# Altium integrated library Infineon RF & Wireless Control.IntLib: 329 symbols (part 11 of 11)
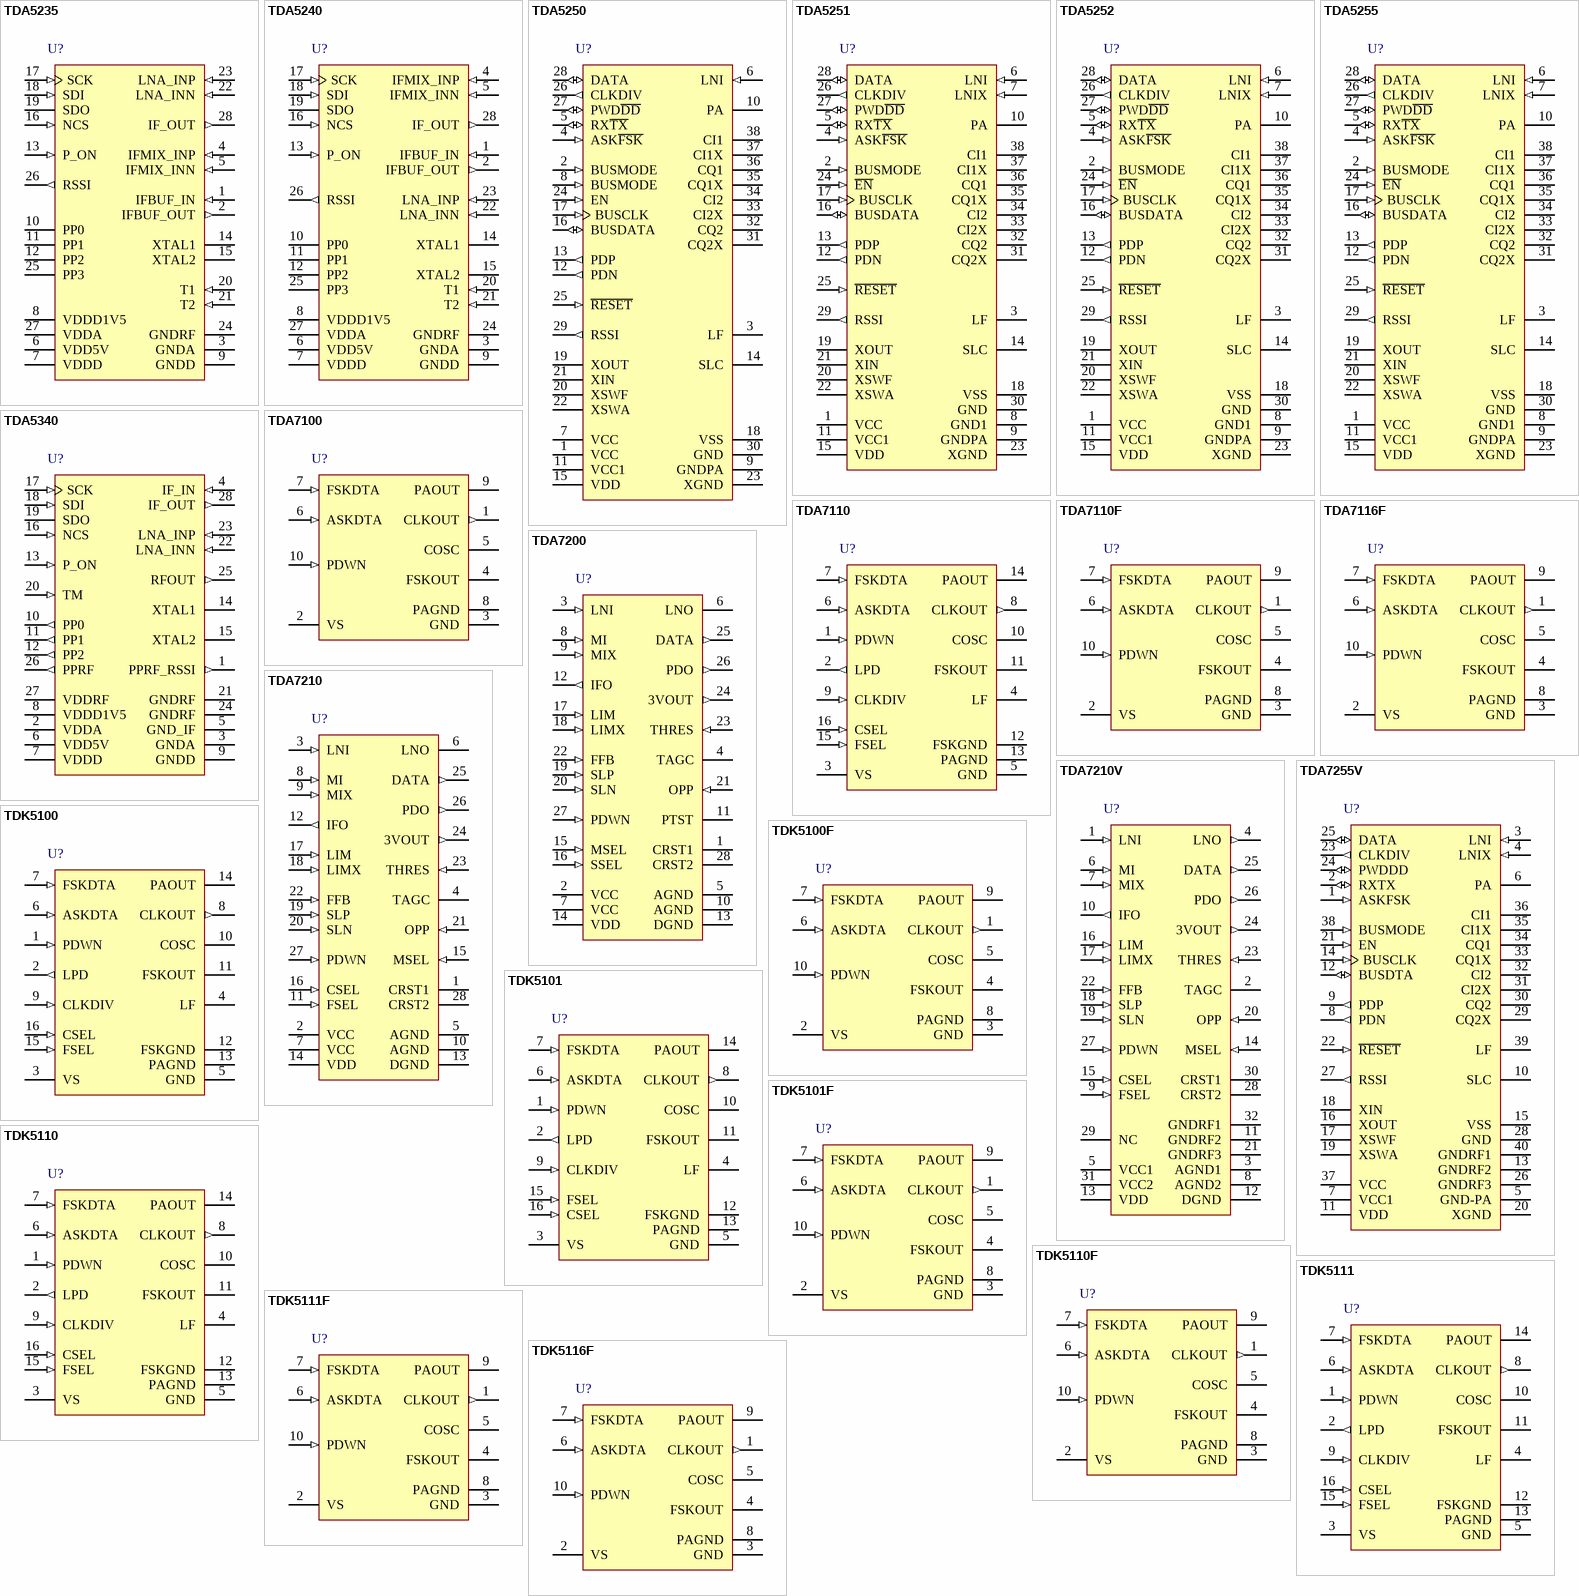
[diagram p19: symbols TDA5235 to TDK5116F]

## TDK5100F
designator U?
434 MHz ASK / FSK Transmitter, -40 to 125 degC, PG-TSSOP-10, Green; Manufacturer: Infineon; PartNumber: TDK5100F; Channel Requirements per Band: Single Channel; Frequency Band: 434 MHz; Green: yes; Transmit Power (at 3V): 5 dBm; DatasheetVersion: Rev. 1.2; PackageReference: PG-TSSOP-10; PackageDescription: 10-Pin Plastic (Green) Thin Shrink Small Outline Package, 3 x 3 mm Body, 0.5 mm Pitch; Supplier 1: Mouser; Supplier Part Number 1: 726-TDK5100F; Supplier 2: Digi-Key; Supplier Part Number 2: TDK5100FINTR-ND; Supplier 3: Digi-Key; Supplier Part Number 3: TDK5100FINCT-ND; Supplier 4: Digi-Key; Supplier Part Number 4: TDK5100FINDKR-ND; Group: Transmitter; Modulation Type: ASK / FSK; Mounting Technology: Surface Mount; ComponentLink1Description: Manufacturer URL; ComponentLink1URL: http://www.infineon.com/; ComponentLink2Description: Datasheet; ComponentLink2URL: http://www.infineon.com/dgdl/TDK5100F_DS_V1+2.pdf?folderId=db3a3043191a246301192dd42ef02ae5&fileId=db3a3043191a246301192e0f2dd12b49; ComponentLink3Description: Package Specification; ComponentLink3URL: http://www.infineon.com/cms/packages/SMD_-_Surface_Mounted_Devices/P-PG-TSSOP/P-PG-TSSOP-10-1x_-3x_-5.html?__locale=en
footprint INF-PG-TSSOP-10_N (SOP, 10-Leads, Body 3x3 mm, Pitch 0.5 mm, IPC Medium Density)
footprint INF-PG-TSSOP-10_L (SOP, 10-Leads, Body 3x3 mm, Pitch 0.5 mm, IPC High Density)
footprint INF-PG-TSSOP-10_M (SOP, 10-Leads, Body 3x3 mm, Pitch 0.5 mm, IPC Low Density)
pins: 1 CLKOUT (out) "Clock output to supply an external device. An external pull-up resistor has to be added in accordance to the driving requirements of the external device. The clock frequency is 847.5 kHz.", 2 VS (power) "This pin is the positive supply of the transmitter electronics. An RF bypass capacitor should be connected directly to this pin and returned to GND (pin 3) as short as possible.", 3 GND (power) "General ground connection.", 4 FSKOUT (hiz) "This pin is connected to a switch to GND (pin 3). The switch is closed when the signal at FSKDTA (pin 7) is in a logic low state. The switch is open when the signal at FSKDTA (pin 7) is in a logic high state. FSKOUT can (See Datasheet)", 5 COSC "This pin is connected to the reference oscillator circuit. The reference oscillator is working as a negative impedance converter. It presents a negative resistance in series to an inductance at the COSC pin.", 6 ASKDTA (in) "Digital amplitude modulation can be imparted to the Power Amplifier through this pin. A logic high (ASKDTA > 1.5 V or open) enables the Power Amplifier. A logic low (ASKDTA < 0.5 V) disables the Power Amplifier.", 7 FSKDTA (in) "Digital frequency modulation can be imparted to the Xtal Oscillator by this pin. The VCO-frequency varies in accordance to the frequency of the reference oscillator. A logic high (FSKDTA > 1.5V or open) sets the FSK switch (See Datasheet)", 8 PAGND (power) "Ground connection of the power amplifier. The RF ground return path of the power amplifier output PAOUT (pin 9) has to be concentrated to this pin.", 9 PAOUT (oc) "RF output pin of the transmitter. A DC path to the positive supply VS has to be supplied by the antenna matching network.", 10 PDWN (in) "Disable pin for the complete transmitter circuit. A logic low (PDWN < 0.7 V) turns off all transmitter functions. A logic high (PDWN > 1.5 V) gives access to all transmitter functions. PDWN input will be pulled up by 40 uA (See Datasheet)"

## TDK5101
designator U?
315 MHz ASK / FSK Transmitter, -40 to 125 degC, PG-TSSOP-16, Green; Manufacturer: Infineon; PartNumber: TDK5101; Channel Requirements per Band: Single Channel; Frequency Band: 315 MHz; Green: yes; Transmit Power (at 3V): 5 dBm; DatasheetVersion: Rev. 1.0; PackageReference: PG-TSSOP-16; PackageDescription: 16-Pin Plastic (Green) Thin Shrink Small Outline Package, 5 x 4.4 mm Body, 0.65 mm Pitch; Supplier 1: Mouser; Supplier Part Number 1: 726-TDK5101; Supplier 2: Digi-Key; Supplier Part Number 2: TDK5101-ND; Group: Transmitter; Halogen-free: yes; Modulation Type: ASK / FSK; Mounting Technology: Surface Mount; ComponentLink1Description: Manufacturer URL; ComponentLink1URL: http://www.infineon.com/; ComponentLink2Description: Datasheet; ComponentLink2URL: http://www.infineon.com/dgdl/TDK5101_DS_V1.pdf?folderId=db3a30431689f4420116a096e1db033e&fileId=db3a3043191a246301192e2461e02b58&location=en.Products.Sensors___Wireless_Control.Wireless_Control.Transmitter.DATASHEET.TDK5101_DS_V1.pdf; ComponentLink3Description: Package Specification; ComponentLink3URL: http://www.infineon.com/cms/packages/SMD_-_Surface_Mounted_Devices/P-PG-TSSOP/P-PG-TSSOP-16-1.html?__locale=en
footprint INF-PG-TSSOP-16_N (SOP, 16-Leads, Body 5x4.4 mm, Pitch 0.65 mm, IPC Medium Density, IPC Medium Density)
footprint INF-PG-TSSOP-16_L (SOP, 16-Leads, Body 5x4.4 mm, Pitch 0.65 mm, IPC High Density, IPC High Density)
footprint INF-PG-TSSOP-16_M (SOP, 16-Leads, Body 5x4.4 mm, Pitch 0.65 mm, IPC High Density, IPC Low Density)
pins: 1 PDWN (in) "Disable pin for the complete transmitter circuit. A logic low (PDWN < 0.7 V)  turns off all  transmitter functions. A logic high (PDWN > 1.5 V) gives access to  all transmitter functions. PDWN input will be pulled up by 40 (See Datasheet)", 2 LPD (out) "This pin provides an output indicating the  low-voltage state of the supply voltage VS.  VS < 2.15 V will set  LPD to the low-state. An internal pull-up current of 40 µA gives the  output a high-state at supply voltages (See Datasheet)", 3 VS (power) "This pin is the positive supply of the transmitter electronics.  An RF bypass capacitor should be connected directly to this pin and returned to  GND (pin 5) as short as possible", 4 LF "Output of the charge pump and input of the  VCO control voltage.  The loop bandwidth of the PLL is 150 kHz  when only the internal loop filter is used.  The loop bandwidth may be reduced by  applying an external RC network (See Datasheet)", 5 GND (power) "General ground connection", 6 ASKDTA (in) "Digital amplitude modulation can be  imparted to the Power Amplifier through this  pin. A logic high (ASKDTA > 1.5 V or open)  enables the Power Amplifier.  A logic low (ASKDTA < 0.5 V)  disables the Power Amplifier", 7 FSKDTA (in) "Digital frequency modulation can be  imparted to the Xtal Oscillator by this pin.  The VCO-frequency varies in accordance to  the frequency of the reference oscillator. A logic high (FSKDTA > 1.5V or open)  sets the FSK (See Datasheet)", 8 CLKOUT (out) "Clock output to supply an external device.  An external pull-up resistor has to be added   in accordance to the driving requirements of  the external device.  A clock frequency of 2.46 MHz is selected  by a logic low at (See Datasheet)", 9 CLKDIV (in) "This pin is used to select the desired clock  division rate for the CLKOUT signal.  A logic low (CLKDIV < 0.2 V) applied to this  pin selects the 2.46 MHz output signal at  CLKOUT (pin 8).  A logic high (CLKDIV open) applied (See Datasheet)", 10 COSC "This pin is connected to the reference oscillator circuit.  The reference oscillator is working as a negative impedance converter. It presents a  negative resistance in series to an inductance at the COSC pin", 11 FSKOUT (hiz) "This pin is connected to a switch to  FSKGND (pin 12).  The switch is closed when the signal at  FSKDTA (pin 7) is in a logic low state.  The switch is open when the signal at  FSKDTA (pin 7) is in a logic high state. FSKOUT (See Datasheet)", 12 FSKGND (power) "Ground connection for FSK modulation output  FSKOUT", 13 PAGND (power) "Ground connection of the power amplifier. The RF ground return path of the power  amplifier output PAOUT (pin 14) has to be  concentrated to this pin", 14 PAOUT (oc) "RF output pin of the transmitter.  A DC path to the positive supply VS has to  be supplied by the antenna matching network", 15 FSEL (in) "This pin has to be shorted to ground to  select the 315 MHz transmitter frequency  range. A logic low (FSEL < 0.5 V) applied to this pin  sets the transmitter to the 315 MHz frequency range. A logic high (FSEL open) applied (See Datasheet)", 16 CSEL (in) "This pin is used to select the desired reference frequency. A logic high (CSEL open) applied to this pin  sets the internal frequency divider  to accept  a reference frequency of 9.84 MHz"

## TDK5101F
designator U?
315 MHz ASK / FSK Transmitter, -40 to 125 degC, PG-TSSOP-10, Green; Manufacturer: Infineon; PartNumber: TDK5101F; Channel Requirements per Band: Single Channel; Frequency Band: 315 MHz; Green: yes; Transmit Power (at 3V): 5 dBm; DatasheetVersion: Rev. 1.3; PackageReference: PG-TSSOP-10; PackageDescription: 10-Pin Plastic (Green) Thin Shrink Small Outline Package, 3 x 3 mm Body, 0.5 mm Pitch; Supplier 1: Mouser; Supplier Part Number 1: 726-TDK5101F; Supplier 2: Digi-Key; Supplier Part Number 2: TDK5101FINTR-ND; Supplier 3: Digi-Key; Supplier Part Number 3: TDK5101FINCT-ND; Supplier 4: Digi-Key; Supplier Part Number 4: TDK5101FINDKR-ND; Group: Transmitter; Modulation Type: ASK / FSK; Mounting Technology: Surface Mount; ComponentLink1Description: Manufacturer URL; ComponentLink1URL: http://www.infineon.com/; ComponentLink2Description: Datasheet; ComponentLink2URL: http://www.infineon.com/dgdl/TDK5101F_DS_V1.3.pdf?folderId=db3a30431689f4420116a096e1db033e&fileId=db3a3043191a246301192e29b8a32b62&location=en.Products.Sensors___Wireless_Control.Wireless_Control.Transmitter.DATASHEET.TDK5101F_DS_V1.3.pdf; ComponentLink3Description: Package Specification; ComponentLink3URL: http://www.infineon.com/cms/packages/SMD_-_Surface_Mounted_Devices/P-PG-TSSOP/P-PG-TSSOP-10-1x_-3x_-5.html?__locale=en
footprint INF-PG-TSSOP-10_N (SOP, 10-Leads, Body 3x3 mm, Pitch 0.5 mm, IPC Medium Density)
footprint INF-PG-TSSOP-10_L (SOP, 10-Leads, Body 3x3 mm, Pitch 0.5 mm, IPC High Density)
footprint INF-PG-TSSOP-10_M (SOP, 10-Leads, Body 3x3 mm, Pitch 0.5 mm, IPC Low Density)
pins: 1 CLKOUT (out) "Clock output to supply an extemal Device. An extemal pull-up resistor has to be added in accordance to the driving requiemenis of the extemal Device. The clock frequency is 615.2 kHz.", 2 VS (power) "This pin is the positive supply of the transmitter electronics. An RF bypass capacitor should be connected directly to this pin and returned to GND (pin 3) as short as possible.", 3 GND (power) "General ground connection.", 4 FSKOUT (hiz) "This pin is connected to a switch to GND (pin 3). The switch is closed when the signal at FSKDTA (pin 7) is in a logic low state. The switch is open when the signal at FSKDTA (pin 7) is in a logic high slate. FSKOUT can (See Datasheet)", 5 COSC "This pin is connected to the reference oscillator circuit The reference oscillator is working as a negative impedance converter. It presents a negative resistance in series to an Inductance at the COSC pin.", 6 ASKDTA (in) "Digital amplitude modulation can be imparted to the Power Amplifier through this pin. A logic high (ASKDTA > 1.5 V or open) enables the Power Amplifier, A logic low (ASKDTA < 0,5 V) disables the Power Amplifier", 7 FSKDTA (in) "Digital frequency modulation can be imparted to the Xtal Oscillator by this pin. The VCO-frequency varies in accordance to the frequency of the reference oscillator. A logic high (FSKDTA > 1.5v or open) sets the FSK switch (See Datasheet)", 8 PAGND (power) "Ground connection of the power amplifier. The RF ground return path of the power amplifier output PAOUT (pin 9) has to be concentrated to this pm.", 9 PAOUT (oc) "RF output pin of the transmitter. A DC path to the positive supply VS has to be supplied by the antenna matching network.", 10 PDWN (in) "Disable pin for the complete transmitter circuit. A logic low (PDWN < 0.7 V) turns of all transmitter functions. A logic high (PDWN > 1.5 V) gives access to all transmitter functions. PDWN input will be pulled up by 40 uA (See Datasheet)"

## TDK5110
designator U?
868 / 433 MHz ASK / FSK Transmitter, -40 to 125 degC, PG-TSSOP-16, Green; Manufacturer: Infineon; PartNumber: TDK5110; Channel Requirements per Band: Single Channel; Frequency Band: 434 MHz, 868 MHz; Green: yes; Transmit Power (at 3V): 10 dBm; DatasheetVersion: Rev. 1.1; PackageReference: PG-TSSOP-16; PackageDescription: 16-Pin Plastic (Green) Thin Shrink Small Outline Package, 5 x 4.4 mm Body, 0.65 mm Pitch; Supplier 1: Mouser; Supplier Part Number 1: 726-TDK5110; Supplier 2: Digi-Key; Supplier Part Number 2: TDK5110INTR-ND; Supplier 3: Digi-Key; Supplier Part Number 3: TDK5110INCT-ND; Supplier 4: Digi-Key; Supplier Part Number 4: TDK5110INDKR-ND; Group: Transmitter; Halogen-free: yes; Modulation Type: ASK / FSK; Mounting Technology: Surface Mount; ComponentLink1Description: Manufacturer URL; ComponentLink1URL: http://www.infineon.com/; ComponentLink2Description: Datasheet; ComponentLink2URL: http://www.infineon.com/dgdl/TDK5110_DS_V1.1.pdf?folderId=db3a30431689f4420116a096e1db033e&fileId=db3a3043191a246301192e318df72b6f&location=en.Products.Sensors___Wireless_Control.Wireless_Control.Transmitter.DATASHEET.TDK5110_DS_V1.1.pdf; ComponentLink3Description: Package Specification; ComponentLink3URL: http://www.infineon.com/cms/packages/SMD_-_Surface_Mounted_Devices/P-PG-TSSOP/P-PG-TSSOP-16-1.html?__locale=en
footprint INF-PG-TSSOP-16_N (SOP, 16-Leads, Body 5x4.4 mm, Pitch 0.65 mm, IPC Medium Density, IPC Medium Density)
footprint INF-PG-TSSOP-16_L (SOP, 16-Leads, Body 5x4.4 mm, Pitch 0.65 mm, IPC High Density, IPC High Density)
footprint INF-PG-TSSOP-16_M (SOP, 16-Leads, Body 5x4.4 mm, Pitch 0.65 mm, IPC High Density, IPC Low Density)
pins: 1 PDWN (in) "Disable pin for the complete transmitter circuit. A logic low (PDWN < 0.7 V)  turns off all  transmitter functions. A logic high (PDWN > 1.5 V) gives access to  all transmitter functions. PDWN input will be pulled up by 40 (See Datasheet)", 2 LPD (out) "This pin provides an output indicating the  low-voltage state of the supply voltage VS.  VS < 2.15 V will set  LPD to the low-state. An internal pull-up current of 40 µA gives the  output a high-state at supply voltages (See Datasheet)", 3 VS (power) "This pin is the positive supply of the transmitter electronics.  An RF bypass capacitor should be connected directly to this pin and returned to  GND (pin 5) as short as possible", 4 LF "Output of the charge pump and input of the  VCO control voltage.  The loop bandwidth of the PLL is 150 kHz  when only the internal loop filter is used.  The loop bandwidth may be reduced by  applying an external RC network (See Datasheet)", 5 GND (power) "General ground connection", 6 ASKDTA (in) "Digital amplitude modulation can be  imparted to the Power Amplifier through this  pin. A logic high (ASKDTA > 1.5 V or open)  enables the Power Amplifier.  A logic low (ASKDTA < 0.5 V)  disables the Power Amplifier", 7 FSKDTA (in) "Digital frequency modulation can be  imparted to the Xtal Oscillator by this pin.  The VCO-frequency varies in accordance to  the frequency of the reference oscillator. A logic high (FSKDTA > 1.5V or open)  sets the FSK (See Datasheet)", 8 CLKOUT (out) "Clock output to supply an external device.  An external pull-up resistor has to be added   in accordance to the driving requirements of  the external device.  A clock frequency of 3.39 MHz is selected  by a logic low at (See Datasheet)", 9 CLKDIV (in) "This pin is used to select the desired clock  division rate for the CLKOUT signal.  A logic low (CLKDIV < 0.2 V) applied to this  pin selects the 3.39 MHz output signal at  CLKOUT (pin 8).  A logic high (CLKDIV open) applied (See Datasheet)", 10 COSC "This pin is connected to the reference oscillator circuit.  The reference oscillator is working as a negative impedance converter. It presents a  negative resistance in series to an inductance at the COSC pin", 11 FSKOUT (hiz) "This pin is connected to a switch to  FSKGND (pin 12).  The switch is closed when the signal at  FSKDTA (pin 7) is in a logic low state.  The switch is open when the signal at  FSKDTA (pin 7) is in a logic high state. FSKOUT (See Datasheet)", 12 FSKGND (power) "Ground connection for FSK modulation output  FSKOUT", 13 PAGND (power) "Ground connection of the power amplifier. The RF ground return path of the power  amplifier output PAOUT (pin 14) has to be  concentrated to this pin", 14 PAOUT (oc) "RF output pin of the transmitter.  A DC path to the positive supply VS has to  be supplied by the antenna matching network", 15 FSEL (in) "This pin is used to select the desired transmitter frequency. A logic low (FSEL < 0.5 V) applied to this pin  sets the transmitter to the 433 MHz frequency range. A logic high (FSEL open) applied to this pin  sets the (See Datasheet)", 16 CSEL (in) "This pin is used to select the desired reference frequency. A logic low (CSEL < 0.2 V) applied to this pin  sets the internal frequency divider to accept  a reference frequency of 6.78 MHz.  A logic high (CSEL open) applied (See Datasheet)"

## TDK5110F
designator U?
434 MHz ASK / FSK Transmitter, -40 to 125 degC, PG-TSSOP-10, Green; Manufacturer: Infineon; PartNumber: TDK5110F; Channel Requirements per Band: Single Channel; Frequency Band: 434 MHz; Green: yes; Transmit Power (at 3V): 10 dBm; DatasheetVersion: Rev. 1.1; PackageReference: PG-TSSOP-10; PackageDescription: 10-Pin Plastic (Green) Thin Shrink Small Outline Package, 3 x 3 mm Body, 0.5 mm Pitch; Supplier 1: Mouser; Supplier Part Number 1: 726-TDK5110F; Supplier 2: Digi-Key; Supplier Part Number 2: TDK5110F-ND; Modulation Type: ASK / FSK; Mounting Technology: Surface Mount; ComponentLink1Description: Manufacturer URL; ComponentLink1URL: http://www.infineon.com/; ComponentLink2Description: Datasheet; ComponentLink2URL: http://www.infineon.com/dgdl/TDK5110F_DS_V1.1.pdf?folderId=db3a30431689f4420116a096e1db033e&fileId=db3a3043191a246301192e38307a2b7d&location=en.Products.Sensors___Wireless_Control.Wireless_Control.Transmitter.DATASHEET.TDK5110F_DS_V1.1.pdf; ComponentLink3Description: Package Specification; ComponentLink3URL: http://www.infineon.com/cms/packages/SMD_-_Surface_Mounted_Devices/P-PG-TSSOP/P-PG-TSSOP-10-1x_-3x_-5.html?__locale=en
footprint INF-PG-TSSOP-10_N (SOP, 10-Leads, Body 3x3 mm, Pitch 0.5 mm, IPC Medium Density)
footprint INF-PG-TSSOP-10_L (SOP, 10-Leads, Body 3x3 mm, Pitch 0.5 mm, IPC High Density)
footprint INF-PG-TSSOP-10_M (SOP, 10-Leads, Body 3x3 mm, Pitch 0.5 mm, IPC Low Density)
pins: 1 CLKOUT (out) "Clock output to supply an external device. An external pull-up resistor has to be added in accordance to the driving requirements of the external device. The clock frequency is 847.5 kHz.", 2 VS (power) "This pin is the positive supply of the transmitter electronics. An RF bypass capacitor should be connected directly to this pin and returned to GND (pin 3) as short as possible.", 3 GND (power) "General ground connection.", 4 FSKOUT (hiz) "This pin is connected to a switch to GND (pin 3). The switch is closed when the signal at FSKDTA (pin 7) is in a logic low state. The switch is open when the signal at FSKDTA (pin 7) is in a logic high state. FSKOUT can (See Datasheet)", 5 COSC "This pin is connected to the reference oscillator circuit. The reference oscillator is working as a negative impedance converter. It presents a negative resistance in series to an inductance at the COSC pin.", 6 ASKDTA (in) "Digital amplitude modulation can  be imparted to the Power Amplifier through this pin. A logic high (ASKDTA > 1.5 V or open) enables the Power Amplifier. A logic low (ASKDTA < 0.5 V) disables the Power Amplifier.", 7 FSKDTA (in) "Digital frequency modulation can be imparted to the Xtal Oscillator by this pin. The VCO-frequency varies in accordance to the frequency of the reference oscillator. A logic high (FSKDTA > 1.5V or open) sets the FSK switch (See Datasheet)", 8 PAGND (power) "Ground connection of the power amplifier. The RF ground return path of the power amplifier output PAOUT (pin 9) has to be concentrated to this pin.", 9 PAOUT (oc) "RF output pin of the transmitter. A DC path to the positive supply VS has to be supplied by the antenna matching network.", 10 PDWN (in) "Disable pin for the complete transmitter circuit. A logic low (PDWN < 0.7 V) turns off all transmitter functions. A logic high (PDWN > 1.5 v) gives access to all transmitter functions. PDWN input will be pulled up by 40 pA (See Datasheet)"

## TDK5111
designator U?
315 MHz ASK / FSK Transmitter, -40 to 125 degC, PG-TSSOP-16, Green; Manufacturer: Infineon; PartNumber: TDK5111; Channel Requirements per Band: Single Channel; Frequency Band: 315 MHz; Green: yes; Transmit Power (at 3V): 10 dBm; DatasheetVersion: Rev. 1.1; PackageReference: PG-TSSOP-16; PackageDescription: 16-Pin Plastic (Green) Thin Shrink Small Outline Package, 5 x 4.4 mm Body, 0.65 mm Pitch; Supplier 1: Mouser; Supplier Part Number 1: 726-TDK5111; Supplier 2: Digi-Key; Supplier Part Number 2: TDK5111-ND; Group: Transmitter; Halogen-free: yes; Modulation Type: ASK / FSK; Mounting Technology: Surface Mount; ComponentLink1Description: Manufacturer URL; ComponentLink1URL: http://www.infineon.com/; ComponentLink2Description: Datasheet; ComponentLink2URL: http://www.infineon.com/dgdl/TDK5111_DS_V1+1.pdf?folderId=db3a30431689f4420116a096e1db033e&fileId=db3a30431ff98815012057a74de34c9f; ComponentLink3Description: Package Specification; ComponentLink3URL: http://www.infineon.com/cms/packages/SMD_-_Surface_Mounted_Devices/P-PG-TSSOP/P-PG-TSSOP-16-1.html?__locale=en
footprint INF-PG-TSSOP-16_N (SOP, 16-Leads, Body 5x4.4 mm, Pitch 0.65 mm, IPC Medium Density, IPC Medium Density)
footprint INF-PG-TSSOP-16_L (SOP, 16-Leads, Body 5x4.4 mm, Pitch 0.65 mm, IPC High Density, IPC High Density)
footprint INF-PG-TSSOP-16_M (SOP, 16-Leads, Body 5x4.4 mm, Pitch 0.65 mm, IPC High Density, IPC Low Density)
pins: 1 PDWN (in) "Disable pin for the complete transmitter circuit. A logic low (PDWN < 0.7 V)  turns off all transmitter functions. A logic high (PDWN > 1.5 V) gives access to all transmitter functions. PDWN input will be pulled up by 40 µA (See Datasheet)", 2 LPD (out) "This pin provides an output indicating the low-voltage state of the supply voltage VS. VS < 2.15 V will set  LPD to the low-state. An internal pull-up current of 40 µA gives the output a high-state at supply voltages above 2.(See Datasheet)", 3 VS (power) "This pin is the positive supply of the transmitter electronics.  An RF bypass capacitor should be connected directly to this pin and returned to GND (pin 5) as short as possible.", 4 LF "Output of the charge pump and input of the VCO control voltage. The loop bandwidth of the PLL is 150 kHz when only the internal loop filter is used. The loop bandwidth may be reduced by applying an external RC network (See Datasheet)", 5 GND (power) "General ground connection.", 6 ASKDTA (in) "Digital amplitude modulation can be imparted to the Power Amplifier through this pin. A logic high (ASKDTA > 1.5 V or open) enables the Power Amplifier. A logic low (ASKDTA < 0.5 V) disables the Power Amplifier.", 7 FSKDTA (in) "Digital frequency modulation can be imparted to the Xtal Oscillator by this pin. The VCO-frequency varies in accordance to the frequency of the reference oscillator. A logic high (FSKDTA > 1.5V or open) sets the FSK switch (See Datasheet)", 8 CLKOUT (out) "Clock output to supply an external device. An external pull-up resistor has to be added  in accordance to the driving requirements of the external device. A clock frequency of 2.46 MHz is selected by a logic low at CLKDIV (See Datasheet)", 9 CLKDIV (in) "This pin is used to select the desired clock division rate for the CLKOUT signal. A logic low (CLKDIV < 0.2 V) applied to this pin selects the 2.46 MHz output signal at CLKOUT (pin 8). A logic high (CLKDIV open) applied to (See Datasheet)", 10 COSC "This pin is connected to the reference oscillator circuit. The reference oscillator is working as a negative impedance converter. It presents a negative resistance in series to an inductance at the COSC pin.", 11 FSKOUT (hiz) "This pin is connected to a switch to FSKGND (pin 12). The switch is closed when the signal at FSKDTA (pin 7) is in a logic low state. The switch is open when the signal at FSKDTA (pin 7) is in a logic high state. FSKOUT can (See Datasheet)", 12 FSKGND (power) "Ground connection for FSK modulation output  FSKOUT.", 13 PAGND (power) "Ground connection of the power amplifier. The RF ground return path of the power amplifier output PAOUT (pin 14) has to be concentrated to this pin.", 14 PAOUT (oc) "RF output pin of the transmitter. A DC path to the positive supply VS has to be supplied by the antenna matching network", 15 FSEL (in) "This pin has to be shorted to ground to select the 315 MHz transmitter frequency range. A logic low (FSEL < 0.5 V) applied to this pin sets the transmitter to the 315 MHz frequency range. A logic high (FSEL open) applied to (See Datasheet)", 16 CSEL (in) "This pin is used to select the desired reference frequency. A logic high (CSEL open) applied to this pin sets the internal frequency divider  to accept a reference frequency of 9.84 MHz."

## TDK5111F
designator U?
315 MHz ASK / FSK Transmitter, -40 to 125 degC, PG-TSSOP-10, Green; Manufacturer: Infineon; PartNumber: TDK5111F; Channel Requirements per Band: Single Channel; Frequency Band: 315 MHz; Green: yes; Transmit Power (at 3V): 10 dBm; DatasheetVersion: Rev. 1.1; PackageReference: PG-TSSOP-10; PackageDescription: 10-Pin Plastic (Green) Thin Shrink Small Outline Package, 3 x 3 mm Body, 0.5 mm Pitch; Supplier 1: Mouser; Supplier Part Number 1: 726-TDK5111F; Supplier 2: Digi-Key; Supplier Part Number 2: TDK5111FINTR-ND; Supplier 3: Digi-Key; Supplier Part Number 3: TDK5111FINCT-ND; Supplier 4: Digi-Key; Supplier Part Number 4: TDK5111FINDKR-ND; Group: Transmitter; Modulation Type: ASK / FSK; Mounting Technology: Surface Mount; ComponentLink1Description: Manufacturer URL; ComponentLink1URL: http://www.infineon.com/; ComponentLink2Description: Datasheet; ComponentLink2URL: http://www.infineon.com/dgdl/TDK5111F_DS_V1.1.pdf?folderId=db3a30431689f4420116a096e1db033e&fileId=db3a3043191a246301192e4042da2b95&location=en.Products.Sensors___Wireless_Control.Wireless_Control.Transmitter.DATASHEET.TDK5111F_DS_V1.1.pdf; ComponentLink3Description: Package Specification; ComponentLink3URL: http://www.infineon.com/cms/packages/SMD_-_Surface_Mounted_Devices/P-PG-TSSOP/P-PG-TSSOP-10-1x_-3x_-5.html?__locale=en
footprint INF-PG-TSSOP-10_N (SOP, 10-Leads, Body 3x3 mm, Pitch 0.5 mm, IPC Medium Density)
footprint INF-PG-TSSOP-10_L (SOP, 10-Leads, Body 3x3 mm, Pitch 0.5 mm, IPC High Density)
footprint INF-PG-TSSOP-10_M (SOP, 10-Leads, Body 3x3 mm, Pitch 0.5 mm, IPC Low Density)
pins: 1 CLKOUT (out) "Clock Driver Output (615.2 kHz)", 2 VS (power) "Voltage Supply", 3 GND (power) "Ground", 4 FSKOUT (hiz) "Frequency Shift Keying Switch Output", 5 COSC "Crystal Oscillator Input (9.84 MHz)", 6 ASKDTA (in) "Amplitude Shift Keying Data Input", 7 FSKDTA (in) "Frequency Shift Keying Data Input", 8 PAGND (power) "Power Amplitude Ground", 9 PAOUT (oc) "Power Amplitude Output (315 MHz)", 10 PDWN (in) "Power Down Mode Control"

## TDK5116F
designator U?
868 MHz ASK / FSK Transmitter, -40 to 125 degC, PG-TSSOP-10, Green; Manufacturer: Infineon; PartNumber: TDK5116F; Channel Requirements per Band: Single Channel; Frequency Band: 868 MHz; Green: yes; Transmit Power (at 3V): 10 dBm; DatasheetVersion: Rev. 1.1; PackageReference: PG-TSSOP-10; PackageDescription: 10-Pin Plastic (Green) Thin Shrink Small Outline Package, 3 x 3 mm Body, 0.5 mm Pitch; Supplier 1: Mouser; Supplier Part Number 1: 726-TDK5116F; Supplier 2: Digi-Key; Supplier Part Number 2: TDK5116FINTR-ND; Supplier 3: Digi-Key; Supplier Part Number 3: TDK5116FINCT-ND; Supplier 4: Digi-Key; Supplier Part Number 4: TDK5116FINDKR-ND; Group: Transmitter; Modulation Type: ASK / FSK; Mounting Technology: Surface Mount; ComponentLink1Description: Manufacturer URL; ComponentLink1URL: http://www.infineon.com/; ComponentLink2Description: Datasheet; ComponentLink2URL: http://www.infineon.com/dgdl/TDK5116F_DS_V1.1.pdf?folderId=db3a30431689f4420116a096e1db033e&fileId=db3a3043191a246301192e443e032ba1&location=en.Products.Sensors___Wireless_Control.Wireless_Control.Transmitter.DATASHEET.TDK5116F_DS_V1.1.pdf; ComponentLink3Description: Package Specification; ComponentLink3URL: http://www.infineon.com/cms/packages/SMD_-_Surface_Mounted_Devices/P-PG-TSSOP/P-PG-TSSOP-10-1x_-3x_-5.html?__locale=en
footprint INF-PG-TSSOP-10_N (SOP, 10-Leads, Body 3x3 mm, Pitch 0.5 mm, IPC Medium Density)
footprint INF-PG-TSSOP-10_L (SOP, 10-Leads, Body 3x3 mm, Pitch 0.5 mm, IPC High Density)
footprint INF-PG-TSSOP-10_M (SOP, 10-Leads, Body 3x3 mm, Pitch 0.5 mm, IPC Low Density)
pins: 1 CLKOUT (out) "Clock output to supply an external device.An external pull-up resistor has to be added in accordance to the driving requirements of the external device. The clock frequency is 847.5kHz.", 2 VS (power) "This pin is the positive supply of the transmitter electronics.An RF bypass capacitor should be connected directly to this pin and returned to GND as short as possible.", 3 GND (power) "General Ground connection", 4 FSKOUT (hiz) "This pin is connected to a switch to GND. The switch is closed when the signal at FSKDTA is in a logic low state.The switch is open when the signal at FSKDTA is in a logic high state. FSKOUT can switch an additional (See Datasheet)", 5 COSC "This pin is connected to the reference oscillator circuit. The refrence oscillator is working as a negative impedance converter.It presents a negative resistance in series to an inductance at the COSC pin.", 6 ASKDTA (in) "Digital amplitude modulation can be imparted to the Power Amplifier through this pin. A logic high enables the Power Amplifier. A logic low(ASKDTA<0.5V)disables the POWER Amplifier.", 7 FSKDTA (in) "Digital frequency modulation can be imparted to the Xtal Oscillator by this pin,. The VCO-frequency varies in accordance to the frequency of the refrence oscillator.", 8 PAGND (power) "Ground connection of the power amplifier.The RF ground return path of the power amplifier output PAOUT has to be concentrated to this pin.", 9 PAOUT (oc) "RF output pin of the transmitter.A DC path to the positive supply VS has to be supplied by the antenna matching network.", 10 PDWN (in) "Disable pin for the complete transmitter circuit.A logic low (PDWN<0.7V) turns off all transmitter functions. A logic high(PDWN >1.5V)gives access to all transmitter functions. PDWN input will be pulled up by 40ua internally (See Datasheet)"